# EAGLE library part 4455-C16 (library con-molex-kk)
RECEPTACAL
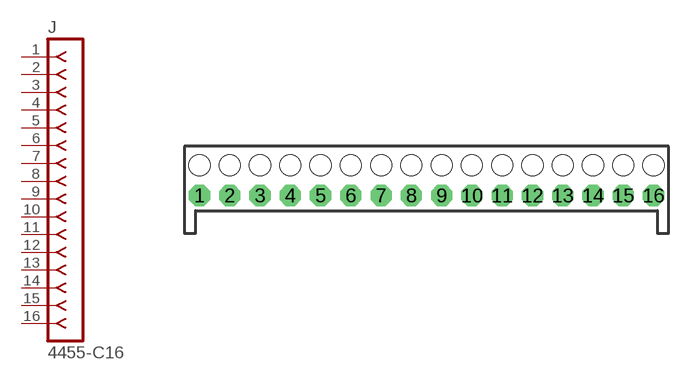
[diagram p54: symbol with the pads of 4455-C16; footprint 4455-C16]

Designator prefix J

## 4455-C16  [4455-C16]
1  1  pas
2  2  pas
3  3  pas
4  4  pas
5  5  pas
6  6  pas
7  7  pas
8  8  pas
9  9  pas
10  10  pas
11  11  pas
12  12  pas
13  13  pas
14  14  pas
15  15  pas
16  16  pas

## Footprint 4455-C16 (pad centres in mm)
RECEPTACAL Vertical, Top Entry, 0.1" pitch
drill 1.016 pad 1.778 octagon: 1 -19.05,0; 2 -16.51,0; 3 -13.97,0; 4 -11.43,0; 5 -8.89,0; 6 -6.35,0; 7 -3.81,0; 8 -1.27,0; 9 1.27,0; 10 3.81,0; 11 6.35,0; 12 8.89,0; 13 11.43,0; 14 13.97,0; 15 16.51,0; 16 19.05,0
hole 1.778 at -19.05,2.54
hole 1.778 at -16.51,2.54
hole 1.778 at -13.97,2.54
hole 1.778 at -11.43,2.54
hole 1.778 at -8.89,2.54
hole 1.778 at -6.35,2.54
hole 1.778 at -3.81,2.54
hole 1.778 at -1.27,2.54
hole 1.778 at 1.27,2.54
hole 1.778 at 3.81,2.54
hole 1.778 at 6.35,2.54
hole 1.778 at 8.89,2.54
hole 1.778 at 11.43,2.54
hole 1.778 at 13.97,2.54
hole 1.778 at 16.51,2.54
hole 1.778 at 19.05,2.54